# Altium footprint library carte sensor.PcbLib: 3 footprints
Each footprint in its own frame and in the unit in brackets; x right, y up, seen from the top. Pads: shape width x height; smd on the part's side, far side on the other; paste and mask are expansions set on the pad; w line width, h text height; cw(c..) or ccw(c..) is an arc to the next point about the centre after c.
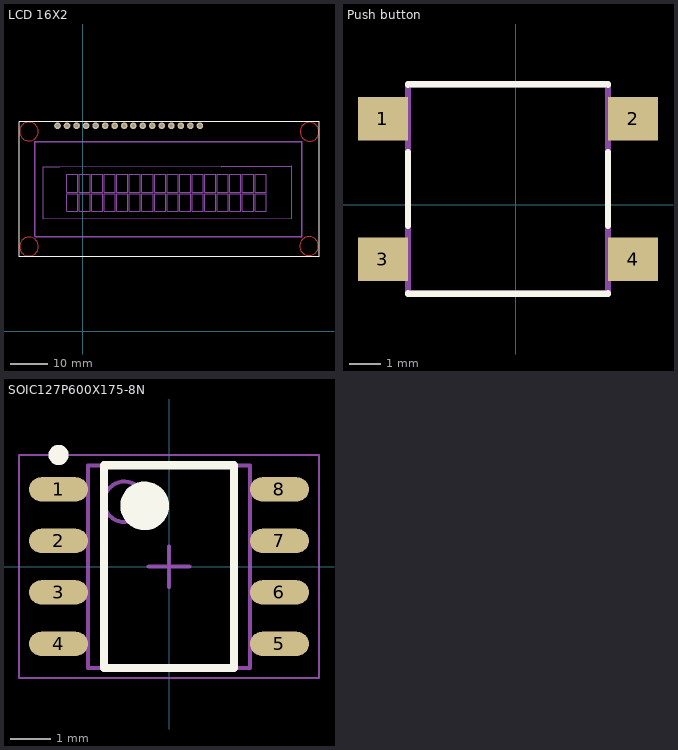
[diagram p0: the footprints below, top view; thin cyan lines are the x and y axes]

## LCD 16X2 [mil]
pads (16):
  round 70 hole 39.37: 1(-265,2160.55) 2(-165,2160.55) 3(-65,2160.55) 4(35,2160.55) 5(135,2160.55) 6(235,2160.55) 7(335,2160.55) 8(435,2160.55) 9(530,2160.55) 10(630,2160.55) 11(730,2160.55) 12(830,2160.55) 13(930,2160.55) 14(1030,2160.55) 15(1130,2160.55) 16(1230,2160.55)
Top Layer:
  circle w10: c2376.21,896.6 r98.43
  circle w10: c2381.21,2096.6 r98.43
  circle w10: c-563.79,891.6 r98.43
  circle w10: c-565,2100 r98.43
Top Overlay:
  lines w8: -669.29,787.01 -669.29,2204.33 ; -669.29,787.4 2480.32,787.4 2480.32,2204.72 -669.29,2204.72
Mechanical 4:
  drawing of 281 lines, arcs and shapes, not listed

## Push button [mm]
pads (4):
  rect 1.6x1.4 smd paste+0 mask+0: 1(-4.254,2.758) 2(3.746,2.758) 3(-4.254,-1.742) 4(3.746,-1.742)
Top Overlay:
  lines w0.2: -3.454,-2.817 -3.454,-2.842 2.946,-2.842 2.946,-2.817 ; -3.454,-0.667 -3.454,1.683 ; -3.454,3.833 -3.454,3.858 2.946,3.858 2.946,3.833 ; 2.946,-0.667 2.946,1.683
Mechanical 12:
  lines w0.2: -3.454,-2.842 -3.454,3.858 2.946,3.858 2.946,-2.842 -3.454,-2.842

## SOIC127P600X175-8N [mm] "SOIC, 8-Leads, Body 4.90x3.90mm, Pitch 1.27mm, IPC Medium Density"
height 1.75
pads (8):
  oval 1.45x0.6 smd: 1(-2.725,1.905) 2(-2.725,0.635) 3(-2.725,-0.635) 4(-2.725,-1.905) 5(2.725,-1.905) 6(2.725,-0.635) 7(2.725,0.635) 8(2.725,1.905)
Top Overlay:
  circle w0.25: c-2.725,2.755 r0.125
  circle w0.6: c-0.6,1.5 r0.3
  lines w0.2: -1.6,-2.5 -1.6,2.5 1.6,2.5 1.6,-2.5 -1.6,-2.5
Mechanical 13:
  circle w0.1: c-1.1,1.6 r0.5
  lines w0.1: -2,-2.5 -2,2.5 2,2.5 2,-2.5 -2,-2.5
Mechanical 15:
  lines w0.05: -3.7,-2.75 -3.7,2.75 3.7,2.75 3.7,-2.75 -3.7,-2.75
  lines w0.1: -0.5,0 0.5,0 ; 0,-0.5 0,0.5
3D body: height 1.75, standoff 1.35, extent -2,-2.5 2,2.5